# Altium schematic symbol library WPME-VISM.SchLib: 1 symbol
Pins are listed as number, name and electrical type; pins without a type are passive.

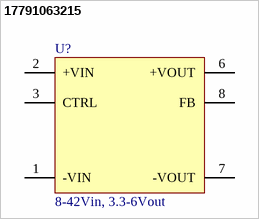
[diagram p0: symbol 17791063215]

## 17791063215
designator U?, comment 8-42Vin, 3.3-6Vout
WPME-VISM Variable Isolated SIP Module, THT, SIP-8, 8-42Vin, 3.3-6Vout; Manufacturer Part Number: 17791063215; Manufacturer: Wurth Elektronik; Input Voltage Min: 8V; Input Voltage Max: 42V; Isolation Voltage: 2000V (DC); Output Power: 1W; Output Voltage Min: 3.3V; Output Voltage Max: 6V; Category: Isolated Converter; Match Code: WPME-VISM; ComponentLink1Description: Website Link; ComponentLink1URL: https://www.we-online.com/redexpert/article/17791063215?ad; ComponentLink2Description: Datasheet Link; ComponentLink2URL: https://www.we-online.com/redexpert/spec/17791063215?ad; Mount: Through Hole; Min Operating Temperature: -40°C; Max Operating Temperature: 85°C; Packaging: Tube; Case/Size Code: SIP-8; Length: 21.8mm; Width: 9.2mm; Height: 11.1mm
footprint WPME-VISM_SIP-8
pins: 1 -VIN, 2 +VIN, 3 CTRL, 6 +VOUT, 7 -VOUT, 8 FB